# Altium schematic symbol library AD8606ARZ.Schlib: 1 symbol
Pins are listed as number, name and electrical type; pins without a type are passive.

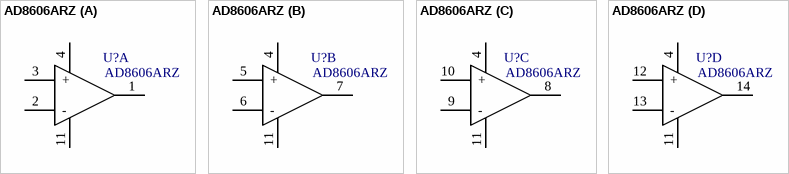
[diagram p0: symbol AD8606ARZ]

## AD8606ARZ
designator U?
Назначение: Операционный усилитель; Наимнование: AD8606ARZ
footprint SO-14
part A pins: 1 Vout, 2 -, 3 +, 4 Vss+, 11 Vss-
part B pins: 4 Vss+, 5 +, 6 -, 7 Vout, 11 Vss-
part C pins: 4 Vss+, 8 Vout, 9 -, 10 +, 11 Vss-
part D pins: 4 Vss+, 11 Vss-, 12 +, 13 -, 14 Vout